# EAGLE library part HCMS-3966 (library 0-display-hcms)
Agilent HCMS-39x6 and HCMS-39x7 3.3 V High Performance CMOS 5x7 AlphaNumeric Displays
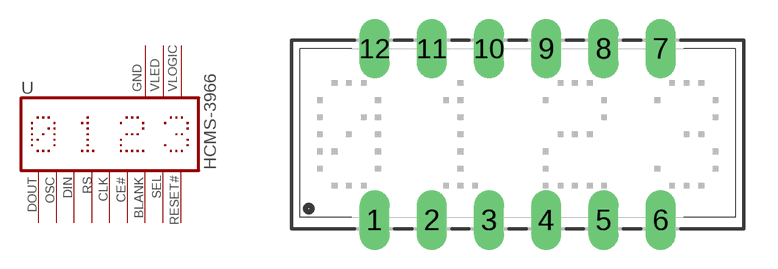
[diagram p0: symbol with the pads of HCMS3; footprint HCMS3]

Designator prefix -

## HCMS-3966  [HCMS3]
1  DOUT
2  OSC
3  VLED
4  DIN
5  RS
6  CLK
7  CE#
8  BLANK
9  GND
10  SEL
11  VLOGIC
12  RESET#

## Footprint HCMS3 (pad centres in mm)
drill 0.813 long: 1 -6.35,-3.81; 2 -3.81,-3.81; 3 -1.27,-3.81; 4 1.27,-3.81; 5 3.81,-3.81; 6 6.35,-3.81; 7 6.35,3.81; 8 3.81,3.81; 9 1.27,3.81; 10 -1.27,3.81; 11 -3.81,3.81; 12 -6.35,3.81